# EAGLE library part BL-T52C-31 (library mjg)
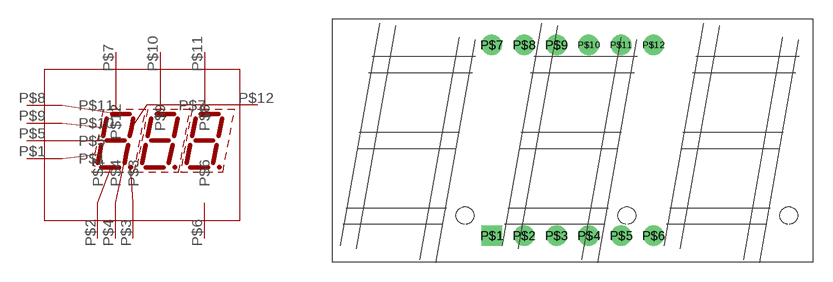
[diagram p3: symbol with the pads of BL-T52X-31; footprint BL-T52X-31]

Designator prefix -

## BL-T52C-31  [BL-T52X-31]
P$1  P$1
P$2  P$2
P$3  P$3
P$4  P$4
P$5  P$5
P$6  P$6
P$7  P$12
P$8  P$11
P$9  P$10
P$10  P$9
P$11  P$8
P$12  P$7

## Footprint BL-T52X-31 (pad centres in mm)
drill 1.067 square: P$1 -6.35,-7.493
drill 1.067: P$2 -3.81,-7.493; P$3 -1.27,-7.493; P$4 1.27,-7.493; P$5 3.81,-7.493; P$6 6.35,-7.493; P$7 -6.35,7.493; P$8 -3.81,7.493; P$9 -1.27,7.493; P$10 1.27,7.493; P$11 3.81,7.493; P$12 6.35,7.493